# Altium integrated library Chokes.IntLib: 1 symbol
Pins are listed as number, name and electrical type; pins without a type are passive.

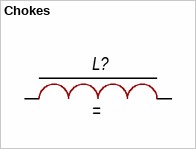
[diagram p0: symbol Chokes]

## Chokes
designator L?
Model: *; Manufcacture: *; HelpURL: *; Case: *; Value: *
footprint CDRH127
pins: 1, 2